# EAGLE library part 2091-1428/200-000 (library con-wago_3.5 mm)
Serie 2091, Stiftleiste mit abgewinkelten Lötstiften 8-polig THR/ Series 2091, Male header with angled solder pins 8-pole THR Polzahl / Pole No.: 8 Rastermaß / Pitch: 3.5 mm Bemessungsspannung / Rated Voltage: 160 V Nennstrom / Nominal Current: 10 A Lötstiftlänge: / Solder Pin Length: 2.4 mm Farbe / Color: lichtgrau / light gray Stand: 01.01.2013. Die jeweils aktuellen Daten zu diesem Artikel finden Sie in unserem Produktkatalog, den Sie unter www.wago.com einsehen können. As of: 01/01/2013. Please find the newest data for this article in our product catalogue, which can be viewed under www.wago.com.
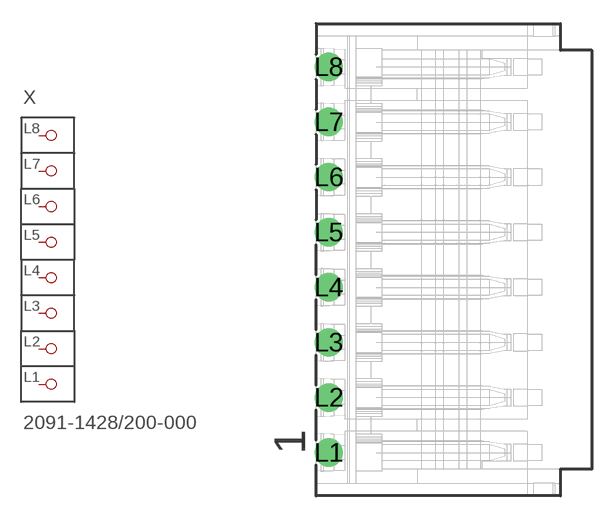
[diagram p13: symbol with the pads of P-2091-1428/200-000; footprint P-2091-1428/200-000]

Designator prefix X

## 2091-1428/200-000  [P-2091-1428/200-000]
L1  P1
L2  P2
L3  P3
L4  P4
L5  P5
L6  P6
L7  P7
L8  P8

## Footprint P-2091-1428/200-000 (pad centres in mm)
drill 1.2 round: L1 -7.95,-12.25; L2 -7.95,-8.75; L3 -7.95,-5.25; L4 -7.95,-1.75; L5 -7.95,1.75; L6 -7.95,5.25; L7 -7.95,8.75; L8 -7.95,12.25